# Altium schematic symbol library C0805X104K5RAC3316.SchLib: 2 symbols
Pins are listed as number, name and electrical type; pins without a type are passive.

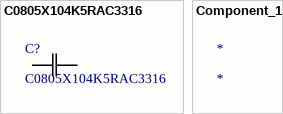
[diagram p0: symbols C0805X104K5RAC3316 to Component_1]

## C0805X104K5RAC3316
designator C?
No Description Available; Mfr_Name: Kemet; Type: DEV; Copyright: Copyright (C) 2023 Ultra Librarian. All rights reserved.; Manufacturer_Part_Number: C0805X104K5RAC3316; RefDes: RefDes
footprint CAPC230155_120N_KEM
pins: 1, 2

## Component_1
designator *